# EAGLE library part 5CSE (library ORBiT-IC-SoCFPGA-Intel-CYCLONE_V)
Book1 edit this description Auto generated by make-symbol-device-package-bsdl.ulp Rev. 44 Source: Book1.txt Connect-List generated from BOOK1.DEV Variant '' with connect-device-split-symbol.ulp
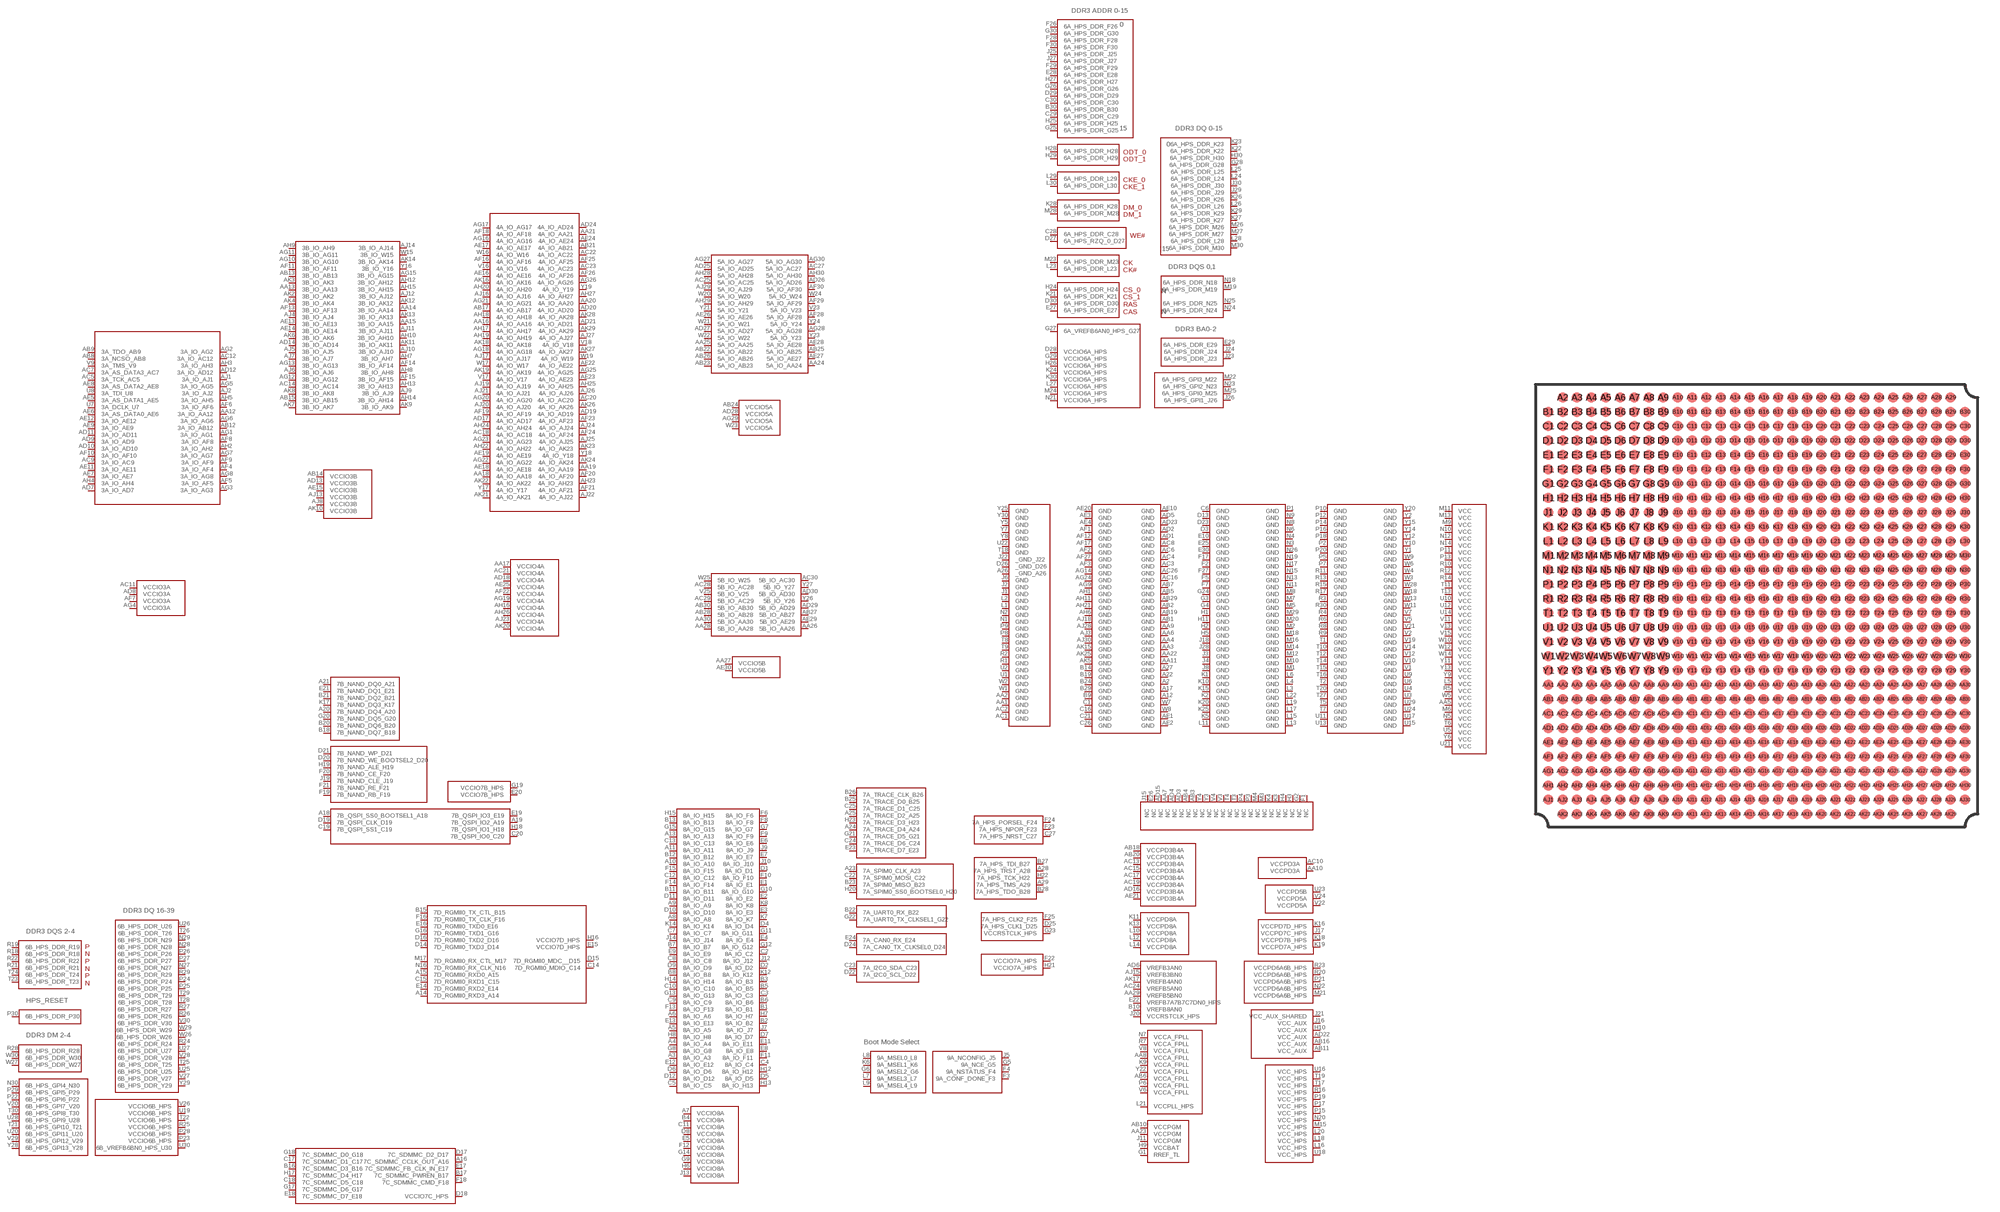
[diagram p0: symbol with the pads of FBGA896; footprint FBGA896]

Designator prefix -; gates G$1=5CSE_BANK3A G$2=5CSE_BANK3B G$3=5CSE_BANK4A G$4=5CSE_BANK5A G$5=5CSE_BANK5B G$6=5CSE_BANK6A G$7=5CSE_BANK6B G$8=5CSE_BANK7A G$9=5CSE_BANK7B G$10=5CSE_BANK7C G$11=5CSE_BANK7D G$12=5CSE_BANK8A G$13=5CSE_BANK9A G$14=5CSE_CORE_POWER G$15=5CSE_SPECIAL_POWER

## 5CSE  [FBGA896]
A2  G$14:GND  pwr
A3  G$12:8A_IO_A3
A4  G$12:8A_IO_A4
A5  G$12:8A_IO_A5
A6  G$12:8A_IO_A6
A7  G$12:VCCIO8A  pwr
A8  G$12:8A_IO_A8
A9  G$12:8A_IO_A9
A10  G$12:8A_IO_A10
A11  G$12:8A_IO_A11
A12  G$14:GND  pwr
A13  G$12:8A_IO_A13
A14  G$11:7D_RGMII0_RXD3_A14
A15  G$11:7D_RGMII0_RXD0_A15
A16  G$10:7C_SDMMC_CCLK_OUT_A16
A17  G$14:GND  pwr
A18  G$9:7B_QSPI_SS0_BOOTSEL1_A18
A19  G$9:7B_QSPI_IO2_A19
A20  G$9:7B_NAND_DQ4_A20
A21  G$9:7B_NAND_DQ0_A21
A22  G$14:GND  pwr
A23  G$8:7A_SPIM0_CLK_A23
A24  G$8:7A_TRACE_D4_A24
A25  G$8:7A_TRACE_D2_A25
A26  G$14:_GND_A26  pwr
A27  G$14:GND  pwr
A28  G$8:7A_HPS_TRST_A28
A29  G$8:7A_HPS_TMS_A29
AA1  G$14:GND  pwr
AA2  G$14:GND  pwr
AA3  G$14:GND  pwr
AA4  G$14:GND  pwr
AA5  G$14:VCC  pwr
AA6  G$14:GND  pwr
AA7  G$15:NC  nc
AA8  G$15:VCCA_FPLL  pwr
AA9  G$14:GND  pwr
AA10  G$15:VCCPD3A  pwr
AA11  G$14:GND  pwr
AA12  G$1:3A_IO_AA12
AA13  G$2:3B_IO_AA13
AA14  G$2:3B_IO_AA14
AA15  G$2:3B_IO_AA15
AA16  G$3:4A_IO_AA16
AA17  G$3:VCCIO4A  pwr
AA18  G$3:4A_IO_AA18
AA19  G$3:4A_IO_AA19
AA20  G$3:4A_IO_AA20
AA21  G$3:4A_IO_AA21
AA22  G$14:GND  pwr
AA23  G$15:VCCPGM  pwr
AA24  G$4:5A_IO_AA24
AA25  G$4:5A_IO_AA25
AA26  G$5:5B_IO_AA26
AA27  G$5:VCCIO5B  pwr
AA28  G$5:5B_IO_AA28
AA29  G$15:VREFB5BN0  pwr
AA30  G$5:5B_IO_AA30
AB1  G$14:GND  pwr
AB2  G$14:GND  pwr
AB3  G$15:NC  nc
AB4  G$15:NC  nc
AB5  G$14:GND  pwr
AB6  G$15:VCCA_FPLL  pwr
AB7  G$14:GND  pwr
AB8  G$1:3A_NCSO_AB8
AB9  G$1:3A_TDO_AB9
AB10  G$15:VCCPGM  pwr
AB11  G$15:VCC_AUX  pwr
AB12  G$1:3A_IO_AB12
AB13  G$2:3B_IO_AB13
AB14  G$2:VCCIO3B  pwr
AB15  G$2:3B_IO_AB15
AB16  G$15:VCC_AUX  pwr
AB17  G$3:4A_IO_AB17
AB18  G$15:VCCPD3B4A  pwr
AB19  G$14:GND  pwr
AB20  G$15:VCCPD3B4A  pwr
AB21  G$3:4A_IO_AB21
AB22  G$4:5A_IO_AB22
AB23  G$4:5A_IO_AB23
AB24  G$4:VCCIO5A  pwr
AB25  G$4:5A_IO_AB25
AB26  G$4:5A_IO_AB26
AB27  G$5:5B_IO_AB27
AB28  G$5:5B_IO_AB28
AB29  G$14:GND  pwr
AB30  G$5:5B_IO_AB30
AC1  G$14:GND  pwr
AC2  G$14:GND  pwr
AC3  G$14:GND  pwr
AC4  G$14:GND  pwr
AC5  G$1:3A_TCK_AC5
AC6  G$14:GND  pwr
AC7  G$1:3A_AS_DATA3_AC7
AC8  G$14:GND  pwr
AC9  G$1:3A_IO_AC9
AC10  G$15:VCCPD3A  pwr
AC11  G$1:VCCIO3A  pwr
AC12  G$1:3A_IO_AC12
AC13  G$15:VCCPD3B4A  pwr
AC14  G$2:3B_IO_AC14
AC15  G$15:VCCPD3B4A  pwr
AC16  G$14:GND  pwr
AC17  G$15:VCCPD3B4A  pwr
AC18  G$3:4A_IO_AC18
AC19  G$15:VCCPD3B4A  pwr
AC20  G$3:4A_IO_AC20
AC21  G$3:VCCIO4A  pwr
AC22  G$3:4A_IO_AC22
AC23  G$3:4A_IO_AC23
AC24  G$15:VREFB5AN0  pwr
AC25  G$4:5A_IO_AC25
AC26  G$14:GND  pwr
AC27  G$4:5A_IO_AC27
AC28  G$5:5B_IO_AC28
AC29  G$5:5B_IO_AC29
AC30  G$5:5B_IO_AC30
AD1  G$14:GND  pwr
AD2  G$14:GND  pwr
AD3  G$15:NC  nc
AD4  G$15:NC  nc
AD5  G$14:GND  pwr
AD6  G$15:VREFB3AN0  pwr
AD7  G$1:3A_IO_AD7
AD8  G$1:VCCIO3A  pwr
AD9  G$1:3A_IO_AD9
AD10  G$1:3A_IO_AD10
AD11  G$1:3A_IO_AD11
AD12  G$1:3A_IO_AD12
AD13  G$2:VCCIO3B  pwr
AD14  G$2:3B_IO_AD14
AD15  G$15:NC  nc
AD16  G$15:VCCPD3B4A  pwr
AD17  G$3:4A_IO_AD17
AD18  G$3:VCCIO4A  pwr
AD19  G$3:4A_IO_AD19
AD20  G$3:4A_IO_AD20
AD21  G$3:4A_IO_AD21
AD22  G$15:VCC_AUX  pwr
AD23  G$14:GND  pwr
AD24  G$3:4A_IO_AD24
AD25  G$4:5A_IO_AD25
AD26  G$4:5A_IO_AD26
AD27  G$4:5A_IO_AD27
AD28  G$4:VCCIO5A  pwr
AD29  G$5:5B_IO_AD29
AD30  G$5:5B_IO_AD30
AE1  G$14:GND  pwr
AE2  G$14:GND  pwr
AE3  G$14:GND  pwr
AE4  G$14:GND  pwr
AE5  G$1:3A_AS_DATA1_AE5
AE6  G$1:3A_AS_DATA0_AE6
AE7  G$1:3A_IO_AE7
AE8  G$1:3A_AS_DATA2_AE8
AE9  G$1:3A_IO_AE9
AE10  G$14:GND  pwr
AE11  G$1:3A_IO_AE11
AE12  G$1:3A_IO_AE12
AE13  G$2:3B_IO_AE13
AE14  G$2:3B_IO_AE14
AE15  G$2:VCCIO3B  pwr
AE16  G$3:4A_IO_AE16
AE17  G$3:4A_IO_AE17
AE18  G$3:4A_IO_AE18
AE19  G$3:4A_IO_AE19
AE20  G$14:GND  pwr
AE21  G$15:VCCPD3B4A  pwr
AE22  G$3:4A_IO_AE22
AE23  G$3:4A_IO_AE23
AE24  G$3:4A_IO_AE24
AE25  G$3:VCCIO4A  pwr
AE26  G$4:5A_IO_AE26
AE27  G$4:5A_IO_AE27
AE28  G$4:5A_IO_AE28
AE29  G$5:5B_IO_AE29
AE30  G$5:VCCIO5B  pwr
AF1  G$14:GND  pwr
AF2  G$14:GND  pwr
AF3  G$14:GND  pwr
AF4  G$1:3A_IO_AF4
AF5  G$1:3A_IO_AF5
AF6  G$1:3A_IO_AF6
AF7  G$1:VCCIO3A  pwr
AF8  G$1:3A_IO_AF8
AF9  G$1:3A_IO_AF9
AF10  G$1:3A_IO_AF10
AF11  G$2:3B_IO_AF11
AF12  G$14:GND  pwr
AF13  G$2:3B_IO_AF13
AF14  G$2:3B_IO_AF14
AF15  G$2:3B_IO_AF15
AF16  G$3:4A_IO_AF16
AF17  G$14:GND  pwr
AF18  G$3:4A_IO_AF18
AF19  G$3:4A_IO_AF19
AF20  G$3:4A_IO_AF20
AF21  G$3:4A_IO_AF21
AF22  G$3:VCCIO4A  pwr
AF23  G$3:4A_IO_AF23
AF24  G$3:4A_IO_AF24
AF25  G$3:4A_IO_AF25
AF26  G$3:4A_IO_AF26
AF27  G$14:GND  pwr
AF28  G$4:5A_IO_AF28
AF29  G$4:5A_IO_AF29
AF30  G$4:5A_IO_AF30
AG1  G$1:3A_IO_AG1
AG2  G$1:3A_IO_AG2
AG3  G$1:3A_IO_AG3
AG4  G$1:VCCIO3A  pwr
AG5  G$1:3A_IO_AG5
AG6  G$1:3A_IO_AG6
AG7  G$1:3A_IO_AG7
AG8  G$1:3A_IO_AG8
AG9  G$14:GND  pwr
AG10  G$2:3B_IO_AG10
AG11  G$2:3B_IO_AG11
AG12  G$2:3B_IO_AG12
AG13  G$2:3B_IO_AG13
AG14  G$14:GND  pwr
AG15  G$2:3B_IO_AG15
AG16  G$3:4A_IO_AG16
AG17  G$3:4A_IO_AG17
AG18  G$3:4A_IO_AG18
AG19  G$3:VCCIO4A  pwr
AG20  G$3:4A_IO_AG20
AG21  G$3:4A_IO_AG21
AG22  G$3:4A_IO_AG22
AG23  G$3:4A_IO_AG23
AG24  G$14:GND  pwr
AG25  G$3:4A_IO_AG25
AG26  G$3:4A_IO_AG26
AG27  G$4:5A_IO_AG27
AG28  G$4:5A_IO_AG28
AG29  G$4:VCCIO5A  pwr
AG30  G$4:5A_IO_AG30
AH1  G$14:GND  pwr
AH2  G$1:3A_IO_AH2
AH3  G$1:3A_IO_AH3
AH4  G$1:3A_IO_AH4
AH5  G$1:3A_IO_AH5
AH6  G$14:GND  pwr
AH7  G$2:3B_IO_AH7
AH8  G$2:3B_IO_AH8
AH9  G$2:3B_IO_AH9
AH10  G$2:3B_IO_AH10
AH11  G$14:GND  pwr
AH12  G$2:3B_IO_AH12
AH13  G$2:3B_IO_AH13
AH14  G$2:3B_IO_AH14
AH15  G$2:3B_IO_AH15
AH16  G$3:VCCIO4A  pwr
AH17  G$3:4A_IO_AH17
AH18  G$3:4A_IO_AH18
AH19  G$3:4A_IO_AH19
AH20  G$3:4A_IO_AH20
AH21  G$14:GND  pwr
AH22  G$3:4A_IO_AH22
AH23  G$3:4A_IO_AH23
AH24  G$3:4A_IO_AH24
AH25  G$3:4A_IO_AH25
AH26  G$3:VCCIO4A  pwr
AH27  G$3:4A_IO_AH27
AH28  G$4:5A_IO_AH28
AH29  G$4:5A_IO_AH29
AH30  G$4:5A_IO_AH30
AJ1  G$1:3A_IO_AJ1
AJ2  G$1:3A_IO_AJ2
AJ3  G$14:GND  pwr
AJ4  G$2:3B_IO_AJ4
AJ5  G$2:3B_IO_AJ5
AJ6  G$2:3B_IO_AJ6
AJ7  G$2:3B_IO_AJ7
AJ8  G$2:VCCIO3B  pwr
AJ9  G$2:3B_IO_AJ9
AJ10  G$2:3B_IO_AJ10
AJ11  G$2:3B_IO_AJ11
AJ12  G$2:3B_IO_AJ12
AJ13  G$2:VCCIO3B  pwr
AJ14  G$2:3B_IO_AJ14
AJ15  G$15:VREFB3BN0  pwr
AJ16  G$3:4A_IO_AJ16
AJ17  G$3:4A_IO_AJ17
AJ18  G$14:GND  pwr
AJ19  G$3:4A_IO_AJ19
AJ20  G$3:4A_IO_AJ20
AJ21  G$3:4A_IO_AJ21
AJ22  G$3:4A_IO_AJ22
AJ23  G$3:VCCIO4A  pwr
AJ24  G$3:4A_IO_AJ24
AJ25  G$3:4A_IO_AJ25
AJ26  G$3:4A_IO_AJ26
AJ27  G$3:4A_IO_AJ27
AJ28  G$14:GND  pwr
AJ29  G$4:5A_IO_AJ29
AJ30  G$14:GND  pwr
AK2  G$2:3B_IO_AK2
AK3  G$2:3B_IO_AK3
AK4  G$2:3B_IO_AK4
AK5  G$14:GND  pwr
AK6  G$2:3B_IO_AK6
AK7  G$2:3B_IO_AK7
AK8  G$2:3B_IO_AK8
AK9  G$2:3B_IO_AK9
AK10  G$2:VCCIO3B  pwr
AK11  G$2:3B_IO_AK11
AK12  G$2:3B_IO_AK12
AK13  G$2:3B_IO_AK13
AK14  G$2:3B_IO_AK14
AK15  G$14:GND  pwr
AK16  G$3:4A_IO_AK16
AK17  G$15:VREFB4AN0  pwr
AK18  G$3:4A_IO_AK18
AK19  G$3:4A_IO_AK19
AK20  G$3:VCCIO4A  pwr
AK21  G$3:4A_IO_AK21
AK22  G$3:4A_IO_AK22
AK23  G$3:4A_IO_AK23
AK24  G$3:4A_IO_AK24
AK25  G$14:GND  pwr
AK26  G$3:4A_IO_AK26
AK27  G$3:4A_IO_AK27
AK28  G$3:4A_IO_AK28
AK29  G$3:4A_IO_AK29
B1  G$12:8A_IO_B1
B2  G$12:8A_IO_B2
B3  G$12:8A_IO_B3
B4  G$12:VCCIO8A  pwr
B5  G$12:8A_IO_B5
B6  G$12:8A_IO_B6
B7  G$12:8A_IO_B7
B8  G$12:8A_IO_B8
B9  G$14:GND  pwr
B10  G$15:VREFB8AN0  pwr
B11  G$12:8A_IO_B11
B12  G$12:8A_IO_B12
B13  G$12:8A_IO_B13
B14  G$14:GND  pwr
B15  G$11:7D_RGMII0_TX_CTL_B15
B16  G$10:7C_SDMMC_D3_B16
B17  G$10:7C_SDMMC_PWREN_B17
B18  G$9:7B_NAND_DQ7_B18
B19  G$14:GND  pwr
B20  G$9:7B_NAND_DQ6_B20
B21  G$9:7B_NAND_DQ2_B21
B22  G$8:7A_UART0_RX_B22
B23  G$8:7A_SPIM0_MISO_B23
B24  G$14:GND  pwr
B25  G$8:7A_TRACE_D0_B25
B26  G$8:7A_TRACE_CLK_B26
B27  G$8:7A_HPS_TDI_B27
B28  G$8:7A_HPS_TDO_B28
B29  G$14:GND  pwr
B30  G$6:6A_HPS_DDR_B30
C1  G$14:GND  pwr
C2  G$12:8A_IO_C2
C3  G$12:8A_IO_C3
C4  G$12:8A_IO_C4
C5  G$12:8A_IO_C5
C6  G$14:GND  pwr
C7  G$12:8A_IO_C7
C8  G$12:8A_IO_C8
C9  G$12:8A_IO_C9
C10  G$12:8A_IO_C10
C11  G$12:VCCIO8A  pwr
C12  G$12:8A_IO_C12
C13  G$12:8A_IO_C13
C14  G$11:7D_RGMII0_MDIO_C14
C15  G$11:7D_RGMII0_RXD1_C15
C16  G$14:GND  pwr
C17  G$10:7C_SDMMC_D1_C17
C18  G$10:7C_SDMMC_D5_C18
C19  G$9:7B_QSPI_SS1_C19
C20  G$9:7B_QSPI_IO0_C20
C21  G$14:GND  pwr
C22  G$8:7A_SPIM0_MOSI_C22
C23  G$8:7A_I2C0_SDA_C23
C24  G$8:7A_TRACE_D6_C24
C25  G$8:7A_TRACE_D1_C25
C26  G$14:GND  pwr
C27  G$8:7A_HPS_NRST_C27
C28  G$6:6A_HPS_DDR_C28
C29  G$6:6A_HPS_DDR_C29
C30  G$6:6A_HPS_DDR_C30
D1  G$12:8A_IO_D1
D2  G$12:8A_IO_D2
D3  G$14:GND  pwr
D4  G$12:8A_IO_D4
D5  G$12:8A_IO_D5
D6  G$12:8A_IO_D6
D7  G$12:8A_IO_D7
D8  G$12:VCCIO8A  pwr
D9  G$12:8A_IO_D9
D10  G$12:8A_IO_D10
D11  G$12:8A_IO_D11
D12  G$12:8A_IO_D12
D13  G$14:GND  pwr
D14  G$11:7D_RGMII0_TXD3_D14
D15  G$11:7D_RGMII0_MDC__D15
D16  G$11:7D_RGMII0_TXD2_D16
D17  G$10:7C_SDMMC_D2_D17
D18  G$10:VCCIO7C_HPS  pwr
D19  G$9:7B_QSPI_CLK_D19
D20  G$9:7B_NAND_WE_BOOTSEL2_D20
D21  G$9:7B_NAND_WP_D21
D22  G$8:7A_I2C0_SCL_D22
D23  G$14:GND  pwr
D24  G$8:7A_CAN0_TX_CLKSEL0_D24
D25  G$8:7A_HPS_CLK1_D25
D26  G$14:_GND_D26  pwr
D27  G$6:6A_HPS_RZQ_0_D27
D28  G$6:VCCIO6A_HPS  pwr
D29  G$6:6A_HPS_DDR_D29
D30  G$6:6A_HPS_DDR_D30
E1  G$12:8A_IO_E1
E2  G$12:8A_IO_E2
E3  G$12:8A_IO_E3
E4  G$12:8A_IO_E4
E5  G$12:VCCIO8A  pwr
E6  G$12:8A_IO_E6
E7  G$12:8A_IO_E7
E8  G$12:8A_IO_E8
E9  G$12:8A_IO_E9
E10  G$14:GND  pwr
E11  G$12:8A_IO_E11
E12  G$12:8A_IO_E12
E13  G$12:8A_IO_E13
E14  G$11:7D_RGMII0_RXD2_E14
E15  G$11:VCCIO7D_HPS  pwr
E16  G$11:7D_RGMII0_TXD0_E16
E17  G$10:7C_SDMMC_FB_CLK_IN_E17
E18  G$10:7C_SDMMC_D7_E18
E19  G$9:7B_QSPI_IO3_E19
E20  G$9:VCCIO7B_HPS  pwr
E21  G$9:7B_NAND_DQ1_E21
E22  G$15:VREFB7A7B7C7DN0_HPS  pwr
E23  G$8:7A_TRACE_D7_E23
E24  G$8:7A_CAN0_RX_E24
E25  G$14:GND  pwr
E26  G$15:NC  nc
E27  G$6:6A_HPS_DDR_E27
E28  G$6:6A_HPS_DDR_E28
E29  G$6:6A_HPS_DDR_E29
E30  G$14:GND  pwr
F1  G$15:NC  nc
F2  G$14:GND  pwr
F3  G$13:9A_CONF_DONE_F3
F4  G$13:9A_NSTATUS_F4
F5  G$14:GND  pwr
F6  G$12:8A_IO_F6
F7  G$14:GND  pwr
F8  G$12:8A_IO_F8
F9  G$12:8A_IO_F9
F10  G$12:8A_IO_F10
F11  G$12:8A_IO_F11
F12  G$12:VCCIO8A  pwr
F13  G$12:8A_IO_F13
F14  G$12:8A_IO_F14
F15  G$12:8A_IO_F15
F16  G$11:7D_RGMII0_TX_CLK_F16
F17  G$14:GND  pwr
F18  G$10:7C_SDMMC_CMD_F18
F19  G$9:7B_NAND_RB_F19
F20  G$9:7B_NAND_CE_F20
F21  G$9:7B_NAND_RE_F21
F22  G$8:VCCIO7A_HPS  pwr
F23  G$8:7A_HPS_NPOR_F23
F24  G$8:7A_HPS_PORSEL_F24
F25  G$8:7A_HPS_CLK2_F25
F26  G$6:6A_HPS_DDR_F26
F27  G$14:GND  pwr
F28  G$6:6A_HPS_DDR_F28
F29  G$6:6A_HPS_DDR_F29
F30  G$6:6A_HPS_DDR_F30
G1  G$15:RREF_TL
G2  G$15:NC  nc
G3  G$14:GND  pwr
G4  G$14:GND  pwr
G5  G$13:9A_NCE_G5
G6  G$13:9A_MSEL2_G6
G7  G$12:8A_IO_G7
G8  G$12:8A_IO_G8
G9  G$12:VCCIO8A  pwr
G10  G$12:8A_IO_G10
G11  G$12:8A_IO_G11
G12  G$12:8A_IO_G12
G13  G$12:8A_IO_G13
G14  G$12:VCCIO8A  pwr
G15  G$12:8A_IO_G15
G16  G$11:7D_RGMII0_TXD1_G16
G17  G$10:7C_SDMMC_D6_G17
G18  G$10:7C_SDMMC_D0_G18
G19  G$9:VCCIO7B_HPS  pwr
G20  G$9:7B_NAND_DQ5_G20
G21  G$8:7A_TRACE_D5_G21
G22  G$8:7A_UART0_TX_CLKSEL1_G22
G23  G$8:VCCRSTCLK_HPS
G24  G$14:GND  pwr
G25  G$6:6A_HPS_DDR_G25
G26  G$6:6A_HPS_DDR_G26
G27  G$6:6A_VREFB6AN0_HPS_G27
G28  G$6:6A_HPS_DDR_G28
G29  G$6:VCCIO6A_HPS  pwr
G30  G$6:6A_HPS_DDR_G30
H1  G$14:GND  pwr
H2  G$14:GND  pwr
H3  G$15:NC  nc
H4  G$15:NC  nc
H5  G$14:GND  pwr
H6  G$12:VCCIO8A  pwr
H7  G$12:8A_IO_H7
H8  G$12:8A_IO_H8
H9  G$15:VCCBAT  pwr
H10  G$15:VCC_AUX  pwr
H11  G$14:GND  pwr
H12  G$12:8A_IO_H12
H13  G$12:8A_IO_H13
H14  G$12:8A_IO_H14
H15  G$12:8A_IO_H15
H16  G$11:VCCIO7D_HPS  pwr
H17  G$10:7C_SDMMC_D4_H17
H18  G$9:7B_QSPI_IO1_H18
H19  G$9:7B_NAND_ALE_H19
H20  G$8:7A_SPIM0_SS0_BOOTSEL0_H20
H21  G$8:VCCIO7A_HPS  pwr
H22  G$8:7A_HPS_TCK_H22
H23  G$8:7A_TRACE_D3_H23
H24  G$6:6A_HPS_DDR_H24
H25  G$6:6A_HPS_DDR_H25
H26  G$6:VCCIO6A_HPS  pwr
H27  G$6:6A_HPS_DDR_H27
H28  G$6:6A_HPS_DDR_H28
H29  G$6:6A_HPS_DDR_H29
H30  G$6:6A_HPS_DDR_H30
J1  G$14:GND  pwr
J2  G$14:GND  pwr
J3  G$14:GND  pwr
J4  G$14:GND  pwr
J5  G$13:9A_NCONFIG_J5
J6  G$14:GND  pwr
J7  G$12:8A_IO_J7
J8  G$14:GND  pwr
J9  G$12:8A_IO_J9
J10  G$12:8A_IO_J10
J11  G$15:VCCPGM  pwr
J12  G$12:8A_IO_J12
J13  G$12:VCCIO8A  pwr
J14  G$12:8A_IO_J14
J15  G$15:NC  nc
J16  G$15:VCC_AUX  pwr
J17  G$15:VCCPD7C_HPS  pwr
J18  G$14:GND  pwr
J19  G$9:7B_NAND_CLE_J19
J20  G$15:VCCRSTCLK_HPS  pwr
J21  G$15:VCC_AUX_SHARED  pwr
J22  G$14:_GND_J22  pwr
J23  G$6:6A_HPS_DDR_J23
J24  G$6:6A_HPS_DDR_J24
J25  G$6:6A_HPS_DDR_J25
J26  G$6:6A_HPS_GPI1_J26
J27  G$6:6A_HPS_DDR_J27
J28  G$14:GND  pwr
J29  G$6:6A_HPS_DDR_J29
J30  G$6:6A_HPS_DDR_J30
K1  G$14:GND  pwr
K2  G$14:GND  pwr
K3  G$15:NC  nc
K4  G$15:NC  nc
K5  G$14:GND  pwr
K6  G$13:9A_MSEL1_K6
K7  G$12:8A_IO_K7
K8  G$12:8A_IO_K8
K9  G$15:VCCA_FPLL  pwr
K10  G$14:GND  pwr
K11  G$15:VCCPD8A  pwr
K12  G$12:8A_IO_K12
K13  G$15:VCCPD8A  pwr
K14  G$12:8A_IO_K14
K15  G$14:GND  pwr
K16  G$15:VCCPD7D_HPS  pwr
K17  G$9:7B_NAND_DQ3_K17
K18  G$15:VCCPD7B_HPS  pwr
K19  G$15:VCCPD7A_HPS  pwr
K20  G$14:GND  pwr
K21  G$6:6A_HPS_DDR_K21
K22  G$6:6A_HPS_DDR_K22
K23  G$6:6A_HPS_DDR_K23
K24  G$6:VCCIO6A_HPS  pwr
K25  G$14:GND  pwr
K26  G$6:6A_HPS_DDR_K26
K27  G$6:6A_HPS_DDR_K27
K28  G$6:6A_HPS_DDR_K28
K29  G$6:6A_HPS_DDR_K29
K30  G$6:VCCIO6A_HPS  pwr
L1  G$14:GND  pwr
L2  G$14:GND  pwr
L3  G$14:GND  pwr
L4  G$14:GND  pwr
L5  G$14:VCC  pwr
L6  G$14:GND  pwr
L7  G$13:9A_MSEL3_L7
L8  G$13:9A_MSEL0_L8
L9  G$13:9A_MSEL4_L9
L10  G$15:VCCPD8A  pwr
L11  G$14:GND  pwr
L12  G$15:VCCPD8A  pwr
L13  G$14:GND  pwr
L14  G$15:VCCPD8A  pwr
L15  G$14:GND  pwr
L16  G$15:VCC_HPS  pwr
L17  G$14:GND  pwr
L18  G$15:VCC_HPS  pwr
L19  G$14:GND  pwr
L20  G$15:VCC_HPS  pwr
L21  G$15:VCCPLL_HPS  pwr
L22  G$14:GND  pwr
L23  G$6:6A_HPS_DDR_L23
L24  G$6:6A_HPS_DDR_L24
L25  G$6:6A_HPS_DDR_L25
L26  G$6:6A_HPS_DDR_L26
L27  G$6:VCCIO6A_HPS  pwr
L28  G$6:6A_HPS_DDR_L28
L29  G$6:6A_HPS_DDR_L29
L30  G$6:6A_HPS_DDR_L30
M1  G$14:GND  pwr
M2  G$14:GND  pwr
M3  G$15:NC  nc
M4  G$15:NC  nc
M5  G$14:GND  pwr
M6  G$14:VCC  pwr
M7  G$14:GND  pwr
M8  G$14:GND  pwr
M9  G$14:VCC  pwr
M10  G$14:GND  pwr
M11  G$14:VCC  pwr
M12  G$14:GND  pwr
M13  G$14:VCC  pwr
M14  G$14:GND  pwr
M15  G$15:VCC_HPS  pwr
M16  G$14:GND  pwr
M17  G$11:7D_RGMII0_RX_CTL_M17
M18  G$14:GND  pwr
M19  G$6:6A_HPS_DDR_M19
M20  G$14:GND  pwr
M21  G$15:VCCPD6A6B_HPS  pwr
M22  G$6:6A_HPS_GPI3_M22
M23  G$6:6A_HPS_DDR_M23
M24  G$6:VCCIO6A_HPS  pwr
M25  G$6:6A_HPS_GPI0_M25
M26  G$6:6A_HPS_DDR_M26
M27  G$6:6A_HPS_DDR_M27
M28  G$6:6A_HPS_DDR_M28
M29  G$14:GND  pwr
M30  G$6:6A_HPS_DDR_M30
N1  G$14:GND  pwr
N2  G$14:GND  pwr
N3  G$14:GND  pwr
N4  G$14:GND  pwr
N5  G$14:VCC  pwr
N6  G$14:GND  pwr
N7  G$15:VCCA_FPLL  pwr
N8  G$14:GND  pwr
N9  G$14:GND  pwr
N10  G$14:VCC  pwr
N11  G$14:GND  pwr
N12  G$14:VCC  pwr
N13  G$14:GND  pwr
N14  G$14:VCC  pwr
N15  G$14:GND  pwr
N16  G$11:7D_RGMII0_RX_CLK_N16
N17  G$14:GND  pwr
N18  G$6:6A_HPS_DDR_N18
N19  G$14:GND  pwr
N20  G$15:VCC_HPS  pwr
N21  G$6:VCCIO6A_HPS  pwr
N22  G$15:VCCPD6A6B_HPS  pwr
N23  G$6:6A_HPS_GPI2_N23
N24  G$6:6A_HPS_DDR_N24
N25  G$6:6A_HPS_DDR_N25
N26  G$14:GND  pwr
N27  G$7:6B_HPS_DDR_N27
N28  G$7:6B_HPS_DDR_N28
N29  G$7:6B_HPS_DDR_N29
N30  G$7:6B_HPS_GPI4_N30
P1  G$14:GND  pwr
P2  G$14:GND  pwr
P3  G$15:NC  nc
P4  G$15:NC  nc
P5  G$14:GND  pwr
P6  G$15:VCCA_FPLL  pwr
P7  G$14:GND  pwr
P8  G$14:GND  pwr
P9  G$14:GND  pwr
P10  G$14:GND  pwr
P11  G$14:VCC  pwr
P12  G$14:GND  pwr
P13  G$14:VCC  pwr
P14  G$14:GND  pwr
P15  G$15:VCC_HPS  pwr
P16  G$14:GND  pwr
P17  G$15:VCC_HPS  pwr
P18  G$14:GND  pwr
P19  G$15:VCC_HPS  pwr
P20  G$14:GND  pwr
P21  G$15:VCCPD6A6B_HPS  pwr
P22  G$7:6B_HPS_GPI6_P22
P23  G$7:VCCIO6B_HPS  pwr
P24  G$7:6B_HPS_DDR_P24
P25  G$7:6B_HPS_DDR_P25
P26  G$7:6B_HPS_DDR_P26
P27  G$7:6B_HPS_DDR_P27
P28  G$7:VCCIO6B_HPS  pwr
P29  G$7:6B_HPS_GPI5_P29
P30  G$7:6B_HPS_DDR_P30
R1  G$14:GND  pwr
R2  G$14:GND  pwr
R3  G$14:GND  pwr
R4  G$14:GND  pwr
R5  G$14:VCC  pwr
R6  G$14:GND  pwr
R7  G$15:VCCA_FPLL  pwr
R8  G$14:GND  pwr
R9  G$14:GND  pwr
R10  G$14:VCC  pwr
R11  G$14:GND  pwr
R12  G$14:VCC  pwr
R13  G$14:GND  pwr
R14  G$14:VCC  pwr
R15  G$14:GND  pwr
R16  G$15:VCC_HPS  pwr
R17  G$14:GND  pwr
R18  G$7:6B_HPS_DDR_R18
R19  G$7:6B_HPS_DDR_R19
R20  G$15:VCCPD6A6B_HPS  pwr
R21  G$7:6B_HPS_DDR_R21
R22  G$7:6B_HPS_DDR_R22
R23  G$15:VCCPD6A6B_HPS  pwr
R24  G$7:6B_HPS_DDR_R24
R25  G$7:VCCIO6B_HPS  pwr
R26  G$7:6B_HPS_DDR_R26
R27  G$7:6B_HPS_DDR_R27
R28  G$7:6B_HPS_DDR_R28
R29  G$7:6B_HPS_DDR_R29
R30  G$14:GND  pwr
T1  G$14:GND  pwr
T2  G$14:GND  pwr
T3  G$15:NC  nc
T4  G$15:NC  nc
T5  G$14:GND  pwr
T6  G$14:VCC  pwr
T7  G$14:GND  pwr
T8  G$14:GND  pwr
T9  G$14:GND  pwr
T10  G$14:GND  pwr
T11  G$14:VCC  pwr
T12  G$14:GND  pwr
T13  G$14:VCC  pwr
T14  G$14:GND  pwr
T15  G$14:GND  pwr
T16  G$14:GND  pwr
T17  G$15:VCC_HPS  pwr
T18  G$14:GND  pwr
T19  G$15:VCC_HPS  pwr
T20  G$14:GND  pwr
T21  G$7:6B_HPS_GPI10_T21
T22  G$7:VCCIO6B_HPS  pwr
T23  G$7:6B_HPS_DDR_T23
T24  G$7:6B_HPS_DDR_T24
T25  G$7:6B_HPS_DDR_T25
T26  G$7:6B_HPS_DDR_T26
T27  G$14:GND  pwr
T28  G$7:6B_HPS_DDR_T28
T29  G$7:6B_HPS_DDR_T29
T30  G$7:6B_HPS_GPI8_T30
U1  G$14:GND  pwr
U2  G$14:GND  pwr
U3  G$14:GND  pwr
U4  G$14:GND  pwr
U5  G$14:VCC  pwr
U6  G$14:GND  pwr
U7  G$1:3A_DCLK_U7
U8  G$1:3A_TDI_U8
U9  G$14:GND  pwr
U10  G$14:VCC  pwr
U11  G$14:GND  pwr
U12  G$14:VCC  pwr
U13  G$14:GND  pwr
U14  G$14:VCC  pwr
U15  G$14:GND  pwr
U16  G$15:VCC_HPS  pwr
U17  G$14:GND  pwr
U18  G$15:VCC_HPS  pwr
U19  G$7:VCCIO6B_HPS  pwr
U20  G$7:6B_HPS_GPI11_U20
U21  G$14:VCC  pwr
U22  G$14:GND  pwr
U23  G$15:VCCPD5B  pwr
U24  G$14:GND  pwr
U25  G$7:6B_HPS_DDR_U25
U26  G$7:6B_HPS_DDR_U26
U27  G$7:6B_HPS_DDR_U27
U28  G$7:6B_HPS_GPI9_U28
U29  G$14:GND  pwr
U30  G$7:6B_VREFB6BN0_HPS_U30
V1  G$14:GND  pwr
V2  G$14:GND  pwr
V3  G$15:NC  nc
V4  G$15:NC  nc
V5  G$14:GND  pwr
V6  G$15:VCCA_FPLL  pwr
V7  G$14:GND  pwr
V8  G$15:VCCA_FPLL  pwr
V9  G$1:3A_TMS_V9
V10  G$14:GND  pwr
V11  G$14:VCC  pwr
V12  G$14:GND  pwr
V13  G$14:VCC  pwr
V14  G$14:GND  pwr
V15  G$14:VCC  pwr
V16  G$3:4A_IO_V16
V17  G$3:4A_IO_V17
V18  G$3:4A_IO_V18
V19  G$14:GND  pwr
V20  G$7:6B_HPS_GPI7_V20
V21  G$14:GND  pwr
V22  G$15:VCCPD5A  pwr
V23  G$4:5A_IO_V23
V24  G$15:VCCPD5A  pwr
V25  G$5:5B_IO_V25
V26  G$7:VCCIO6B_HPS  pwr
V27  G$7:6B_HPS_DDR_V27
V28  G$7:6B_HPS_DDR_V28
V29  G$7:6B_HPS_GPI12_V29
V30  G$7:6B_HPS_DDR_V30
W1  G$14:GND  pwr
W2  G$14:GND  pwr
W3  G$14:GND  pwr
W4  G$14:GND  pwr
W5  G$14:VCC  pwr
W6  G$14:GND  pwr
W7  G$14:GND  pwr
W8  G$14:GND  pwr
W9  G$14:GND  pwr
W10  G$14:VCC  pwr
W11  G$14:GND  pwr
W12  G$14:VCC  pwr
W13  G$14:GND  pwr
W14  G$14:VCC  pwr
W15  G$2:3B_IO_W15
W16  G$3:4A_IO_W16
W17  G$3:4A_IO_W17
W18  G$14:GND  pwr
W19  G$3:4A_IO_W19
W20  G$4:5A_IO_W20
W21  G$4:5A_IO_W21
W22  G$4:5A_IO_W22
W23  G$4:VCCIO5A  pwr
W24  G$4:5A_IO_W24
W25  G$5:5B_IO_W25
W26  G$7:6B_HPS_DDR_W26
W27  G$7:6B_HPS_DDR_W27
W28  G$14:GND  pwr
W29  G$7:6B_HPS_DDR_W29
W30  G$7:6B_HPS_DDR_W30
Y1  G$14:GND  pwr
Y2  G$14:GND  pwr
Y3  G$15:NC  nc
Y4  G$15:NC  nc
Y5  G$14:GND  pwr
Y6  G$14:VCC  pwr
Y7  G$14:GND  pwr
Y8  G$14:GND  pwr
Y9  G$14:VCC  pwr
Y10  G$14:GND  pwr
Y11  G$14:VCC  pwr
Y12  G$14:GND  pwr
Y13  G$14:VCC  pwr
Y14  G$14:GND  pwr
Y15  G$14:GND  pwr
Y16  G$2:3B_IO_Y16
Y17  G$3:4A_IO_Y17
Y18  G$3:4A_IO_Y18
Y19  G$3:4A_IO_Y19
Y20  G$14:GND  pwr
Y21  G$4:5A_IO_Y21
Y22  G$15:VCCA_FPLL  pwr
Y23  G$4:5A_IO_Y23
Y24  G$4:5A_IO_Y24
Y25  G$14:GND  pwr
Y26  G$5:5B_IO_Y26
Y27  G$5:5B_IO_Y27
Y28  G$7:6B_HPS_GPI13_Y28
Y29  G$7:6B_HPS_DDR_Y29
Y30  G$14:GND  pwr

## Footprint FBGA896 (pad centres in mm)
EP2C70F896 Auto generated by make-symbol-device-package-bsdl.ulp Rev. 19 Source: EP2C70F896.BSD www.altera.com .. cyc2_cii51015.pdf
smd 0.7 x 0.7: A2 -13.5,14.5; A3 -12.5,14.5; A4 -11.5,14.5; A5 -10.5,14.5; A6 -9.5,14.5; A7 -8.5,14.5; A8 -7.5,14.5; A9 -6.5,14.5; A10 -5.5,14.5; A11 -4.5,14.5; A12 -3.5,14.5; A13 -2.5,14.5; A14 -1.5,14.5; A15 -0.5,14.5; A16 0.5,14.5; A17 1.5,14.5; A18 2.5,14.5; A19 3.5,14.5; A20 4.5,14.5; A21 5.5,14.5; A22 6.5,14.5; A23 7.5,14.5; A24 8.5,14.5; A25 9.5,14.5; A26 10.5,14.5; A27 11.5,14.5; A28 12.5,14.5; A29 13.5,14.5; AA1 -14.5,-5.5; AA2 -13.5,-5.5; AA3 -12.5,-5.5; AA4 -11.5,-5.5; AA5 -10.5,-5.5; AA6 -9.5,-5.5; AA7 -8.5,-5.5; AA8 -7.5,-5.5; AA9 -6.5,-5.5; AA10 -5.5,-5.5; AA11 -4.5,-5.5; AA12 -3.5,-5.5; AA13 -2.5,-5.5; AA14 -1.5,-5.5; AA15 -0.5,-5.5; AA16 0.5,-5.5; AA17 1.5,-5.5; AA18 2.5,-5.5; AA19 3.5,-5.5; AA20 4.5,-5.5; AA21 5.5,-5.5; AA22 6.5,-5.5; AA23 7.5,-5.5; AA24 8.5,-5.5; AA25 9.5,-5.5; AA26 10.5,-5.5; AA27 11.5,-5.5; AA28 12.5,-5.5; AA29 13.5,-5.5; AA30 14.5,-5.5; AB1 -14.5,-6.5; AB2 -13.5,-6.5; AB3 -12.5,-6.5; AB4 -11.5,-6.5; AB5 -10.5,-6.5; AB6 -9.5,-6.5; AB7 -8.5,-6.5; AB8 -7.5,-6.5; AB9 -6.5,-6.5; AB10 -5.5,-6.5; AB11 -4.5,-6.5; AB12 -3.5,-6.5; AB13 -2.5,-6.5; AB14 -1.5,-6.5; AB15 -0.5,-6.5; AB16 0.5,-6.5; AB17 1.5,-6.5; AB18 2.5,-6.5; AB19 3.5,-6.5; AB20 4.5,-6.5; AB21 5.5,-6.5; AB22 6.5,-6.5; AB23 7.5,-6.5; AB24 8.5,-6.5; AB25 9.5,-6.5; AB26 10.5,-6.5; AB27 11.5,-6.5; AB28 12.5,-6.5; AB29 13.5,-6.5; AB30 14.5,-6.5; AC1 -14.5,-7.5; AC2 -13.5,-7.5; AC3 -12.5,-7.5; AC4 -11.5,-7.5; AC5 -10.5,-7.5; AC6 -9.5,-7.5; AC7 -8.5,-7.5; AC8 -7.5,-7.5; AC9 -6.5,-7.5; AC10 -5.5,-7.5; AC11 -4.5,-7.5; AC12 -3.5,-7.5; AC13 -2.5,-7.5; AC14 -1.5,-7.5; AC15 -0.5,-7.5; AC16 0.5,-7.5; AC17 1.5,-7.5; AC18 2.5,-7.5; AC19 3.5,-7.5; AC20 4.5,-7.5; AC21 5.5,-7.5; AC22 6.5,-7.5; AC23 7.5,-7.5; AC24 8.5,-7.5; AC25 9.5,-7.5; AC26 10.5,-7.5; AC27 11.5,-7.5; AC28 12.5,-7.5; AC29 13.5,-7.5; AC30 14.5,-7.5; AD1 -14.5,-8.5; AD2 -13.5,-8.5; AD3 -12.5,-8.5; AD4 -11.5,-8.5; AD5 -10.5,-8.5; AD6 -9.5,-8.5; AD7 -8.5,-8.5; AD8 -7.5,-8.5; AD9 -6.5,-8.5; AD10 -5.5,-8.5; AD11 -4.5,-8.5; AD12 -3.5,-8.5; AD13 -2.5,-8.5; AD14 -1.5,-8.5; AD15 -0.5,-8.5; AD16 0.5,-8.5; AD17 1.5,-8.5; AD18 2.5,-8.5; AD19 3.5,-8.5; AD20 4.5,-8.5; AD21 5.5,-8.5; AD22 6.5,-8.5; AD23 7.5,-8.5; AD24 8.5,-8.5; AD25 9.5,-8.5; AD26 10.5,-8.5; AD27 11.5,-8.5; AD28 12.5,-8.5; AD29 13.5,-8.5; AD30 14.5,-8.5; AE1 -14.5,-9.5; AE2 -13.5,-9.5; AE3 -12.5,-9.5; AE4 -11.5,-9.5; AE5 -10.5,-9.5; AE6 -9.5,-9.5; AE7 -8.5,-9.5; AE8 -7.5,-9.5; AE9 -6.5,-9.5; AE10 -5.5,-9.5; AE11 -4.5,-9.5; AE12 -3.5,-9.5; AE13 -2.5,-9.5; AE14 -1.5,-9.5; AE15 -0.5,-9.5; AE16 0.5,-9.5; AE17 1.5,-9.5; AE18 2.5,-9.5; AE19 3.5,-9.5; AE20 4.5,-9.5; AE21 5.5,-9.5; AE22 6.5,-9.5; AE23 7.5,-9.5; AE24 8.5,-9.5; AE25 9.5,-9.5; AE26 10.5,-9.5; AE27 11.5,-9.5; AE28 12.5,-9.5; AE29 13.5,-9.5; AE30 14.5,-9.5; AF1 -14.5,-10.5; AF2 -13.5,-10.5; AF3 -12.5,-10.5; AF4 -11.5,-10.5; AF5 -10.5,-10.5; AF6 -9.5,-10.5; AF7 -8.5,-10.5; AF8 -7.5,-10.5; AF9 -6.5,-10.5; AF10 -5.5,-10.5; AF11 -4.5,-10.5; AF12 -3.5,-10.5; AF13 -2.5,-10.5; AF14 -1.5,-10.5; AF15 -0.5,-10.5; AF16 0.5,-10.5; AF17 1.5,-10.5; AF18 2.5,-10.5; AF19 3.5,-10.5; AF20 4.5,-10.5; AF21 5.5,-10.5; AF22 6.5,-10.5; AF23 7.5,-10.5; AF24 8.5,-10.5; AF25 9.5,-10.5; AF26 10.5,-10.5; AF27 11.5,-10.5; AF28 12.5,-10.5; AF29 13.5,-10.5; AF30 14.5,-10.5; AG1 -14.5,-11.5; AG2 -13.5,-11.5; AG3 -12.5,-11.5; AG4 -11.5,-11.5; AG5 -10.5,-11.5; AG6 -9.5,-11.5; AG7 -8.5,-11.5; AG8 -7.5,-11.5; AG9 -6.5,-11.5; AG10 -5.5,-11.5; AG11 -4.5,-11.5; AG12 -3.5,-11.5; AG13 -2.5,-11.5; AG14 -1.5,-11.5; AG15 -0.5,-11.5; AG16 0.5,-11.5; AG17 1.5,-11.5; AG18 2.5,-11.5; AG19 3.5,-11.5; AG20 4.5,-11.5; AG21 5.5,-11.5; AG22 6.5,-11.5; AG23 7.5,-11.5; AG24 8.5,-11.5; AG25 9.5,-11.5; AG26 10.5,-11.5; AG27 11.5,-11.5; AG28 12.5,-11.5; AG29 13.5,-11.5; AG30 14.5,-11.5; AH1 -14.5,-12.5; AH2 -13.5,-12.5; AH3 -12.5,-12.5; AH4 -11.5,-12.5; AH5 -10.5,-12.5; AH6 -9.5,-12.5; AH7 -8.5,-12.5; AH8 -7.5,-12.5; AH9 -6.5,-12.5; AH10 -5.5,-12.5; AH11 -4.5,-12.5; AH12 -3.5,-12.5; AH13 -2.5,-12.5; AH14 -1.5,-12.5; AH15 -0.5,-12.5; AH16 0.5,-12.5; AH17 1.5,-12.5; AH18 2.5,-12.5; AH19 3.5,-12.5; AH20 4.5,-12.5; AH21 5.5,-12.5; AH22 6.5,-12.5; AH23 7.5,-12.5; AH24 8.5,-12.5; AH25 9.5,-12.5; AH26 10.5,-12.5; AH27 11.5,-12.5; AH28 12.5,-12.5; AH29 13.5,-12.5; AH30 14.5,-12.5; AJ1 -14.5,-13.5; AJ2 -13.5,-13.5; AJ3 -12.5,-13.5; AJ4 -11.5,-13.5; AJ5 -10.5,-13.5; AJ6 -9.5,-13.5; AJ7 -8.5,-13.5; AJ8 -7.5,-13.5; AJ9 -6.5,-13.5; AJ10 -5.5,-13.5; AJ11 -4.5,-13.5; AJ12 -3.5,-13.5; AJ13 -2.5,-13.5; AJ14 -1.5,-13.5; AJ15 -0.5,-13.5; AJ16 0.5,-13.5; AJ17 1.5,-13.5; AJ18 2.5,-13.5; AJ19 3.5,-13.5; AJ20 4.5,-13.5; AJ21 5.5,-13.5; AJ22 6.5,-13.5; AJ23 7.5,-13.5; AJ24 8.5,-13.5; AJ25 9.5,-13.5; AJ26 10.5,-13.5; AJ27 11.5,-13.5; AJ28 12.5,-13.5; AJ29 13.5,-13.5; AJ30 14.5,-13.5; AK2 -13.5,-14.5; AK3 -12.5,-14.5; AK4 -11.5,-14.5; AK5 -10.5,-14.5; AK6 -9.5,-14.5; AK7 -8.5,-14.5; AK8 -7.5,-14.5; AK9 -6.5,-14.5; AK10 -5.5,-14.5; AK11 -4.5,-14.5; AK12 -3.5,-14.5; AK13 -2.5,-14.5; AK14 -1.5,-14.5; AK15 -0.5,-14.5; AK16 0.5,-14.5; AK17 1.5,-14.5; AK18 2.5,-14.5; AK19 3.5,-14.5; AK20 4.5,-14.5; AK21 5.5,-14.5; AK22 6.5,-14.5; AK23 7.5,-14.5; AK24 8.5,-14.5; AK25 9.5,-14.5; AK26 10.5,-14.5; AK27 11.5,-14.5; AK28 12.5,-14.5; AK29 13.5,-14.5; B1 -14.5,13.5; B2 -13.5,13.5; B3 -12.5,13.5; B4 -11.5,13.5; B5 -10.5,13.5; B6 -9.5,13.5; B7 -8.5,13.5; B8 -7.5,13.5; B9 -6.5,13.5; B10 -5.5,13.5; B11 -4.5,13.5; B12 -3.5,13.5; B13 -2.5,13.5; B14 -1.5,13.5; B15 -0.5,13.5; B16 0.5,13.5; B17 1.5,13.5; B18 2.5,13.5; B19 3.5,13.5; B20 4.5,13.5; B21 5.5,13.5; B22 6.5,13.5; B23 7.5,13.5; B24 8.5,13.5; B25 9.5,13.5; B26 10.5,13.5; B27 11.5,13.5; B28 12.5,13.5; B29 13.5,13.5; B30 14.5,13.5; C1 -14.5,12.5; C2 -13.5,12.5; C3 -12.5,12.5; C4 -11.5,12.5; C5 -10.5,12.5; C6 -9.5,12.5; C7 -8.5,12.5; C8 -7.5,12.5; C9 -6.5,12.5; C10 -5.5,12.5; C11 -4.5,12.5; C12 -3.5,12.5; C13 -2.5,12.5; C14 -1.5,12.5; C15 -0.5,12.5; C16 0.5,12.5; C17 1.5,12.5; C18 2.5,12.5; C19 3.5,12.5; C20 4.5,12.5; C21 5.5,12.5; C22 6.5,12.5; C23 7.5,12.5; C24 8.5,12.5; C25 9.5,12.5; C26 10.5,12.5; C27 11.5,12.5; C28 12.5,12.5; C29 13.5,12.5; C30 14.5,12.5; D1 -14.5,11.5; D2 -13.5,11.5; D3 -12.5,11.5; D4 -11.5,11.5; D5 -10.5,11.5; D6 -9.5,11.5; D7 -8.5,11.5; D8 -7.5,11.5; D9 -6.5,11.5; D10 -5.5,11.5; D11 -4.5,11.5; D12 -3.5,11.5; D13 -2.5,11.5; D14 -1.5,11.5; D15 -0.5,11.5; D16 0.5,11.5; D17 1.5,11.5; D18 2.5,11.5; D19 3.5,11.5; D20 4.5,11.5; D21 5.5,11.5; D22 6.5,11.5; D23 7.5,11.5; D24 8.5,11.5; D25 9.5,11.5; D26 10.5,11.5; D27 11.5,11.5; D28 12.5,11.5; D29 13.5,11.5; D30 14.5,11.5; E1 -14.5,10.5; E2 -13.5,10.5; E3 -12.5,10.5; E4 -11.5,10.5; E5 -10.5,10.5; E6 -9.5,10.5; E7 -8.5,10.5; E8 -7.5,10.5; E9 -6.5,10.5; E10 -5.5,10.5; E11 -4.5,10.5; E12 -3.5,10.5; E13 -2.5,10.5; E14 -1.5,10.5; E15 -0.5,10.5; E16 0.5,10.5; E17 1.5,10.5; E18 2.5,10.5; E19 3.5,10.5; E20 4.5,10.5; E21 5.5,10.5; E22 6.5,10.5; E23 7.5,10.5; E24 8.5,10.5; E25 9.5,10.5; E26 10.5,10.5; E27 11.5,10.5; E28 12.5,10.5; E29 13.5,10.5; E30 14.5,10.5; F1 -14.5,9.5; F2 -13.5,9.5; F3 -12.5,9.5; F4 -11.5,9.5; F5 -10.5,9.5; F6 -9.5,9.5; F7 -8.5,9.5; F8 -7.5,9.5; F9 -6.5,9.5; F10 -5.5,9.5; F11 -4.5,9.5; F12 -3.5,9.5; F13 -2.5,9.5; F14 -1.5,9.5; F15 -0.5,9.5; F16 0.5,9.5; F17 1.5,9.5; F18 2.5,9.5; F19 3.5,9.5; F20 4.5,9.5; F21 5.5,9.5; F22 6.5,9.5; F23 7.5,9.5; F24 8.5,9.5; F25 9.5,9.5; F26 10.5,9.5; F27 11.5,9.5; F28 12.5,9.5; F29 13.5,9.5; F30 14.5,9.5; G1 -14.5,8.5; G2 -13.5,8.5; G3 -12.5,8.5; G4 -11.5,8.5; G5 -10.5,8.5; G6 -9.5,8.5; G7 -8.5,8.5; G8 -7.5,8.5; G9 -6.5,8.5; G10 -5.5,8.5; G11 -4.5,8.5; G12 -3.5,8.5; G13 -2.5,8.5; G14 -1.5,8.5; G15 -0.5,8.5; G16 0.5,8.5; G17 1.5,8.5; G18 2.5,8.5; G19 3.5,8.5; G20 4.5,8.5; G21 5.5,8.5; G22 6.5,8.5; G23 7.5,8.5; G24 8.5,8.5; G25 9.5,8.5; G26 10.5,8.5; G27 11.5,8.5; G28 12.5,8.5; G29 13.5,8.5; G30 14.5,8.5; H1 -14.5,7.5; H2 -13.5,7.5; H3 -12.5,7.5; H4 -11.5,7.5; H5 -10.5,7.5; H6 -9.5,7.5; H7 -8.5,7.5; H8 -7.5,7.5; H9 -6.5,7.5; H10 -5.5,7.5; H11 -4.5,7.5; H12 -3.5,7.5; H13 -2.5,7.5; H14 -1.5,7.5; H15 -0.5,7.5; H16 0.5,7.5; H17 1.5,7.5; H18 2.5,7.5; H19 3.5,7.5; H20 4.5,7.5; H21 5.5,7.5; H22 6.5,7.5; H23 7.5,7.5; H24 8.5,7.5; H25 9.5,7.5; H26 10.5,7.5; H27 11.5,7.5; H28 12.5,7.5; H29 13.5,7.5; H30 14.5,7.5; J1 -14.5,6.5; J2 -13.5,6.5; J3 -12.5,6.5; J4 -11.5,6.5; J5 -10.5,6.5; J6 -9.5,6.5; J7 -8.5,6.5; J8 -7.5,6.5; J9 -6.5,6.5; J10 -5.5,6.5; J11 -4.5,6.5; J12 -3.5,6.5; J13 -2.5,6.5; J14 -1.5,6.5; J15 -0.5,6.5; J16 0.5,6.5; J17 1.5,6.5; J18 2.5,6.5; J19 3.5,6.5; J20 4.5,6.5; J21 5.5,6.5; J22 6.5,6.5; J23 7.5,6.5; J24 8.5,6.5; J25 9.5,6.5; J26 10.5,6.5; J27 11.5,6.5; J28 12.5,6.5; J29 13.5,6.5; J30 14.5,6.5; K1 -14.5,5.5; K2 -13.5,5.5; K3 -12.5,5.5; K4 -11.5,5.5; K5 -10.5,5.5; K6 -9.5,5.5; K7 -8.5,5.5; K8 -7.5,5.5; K9 -6.5,5.5; K10 -5.5,5.5; K11 -4.5,5.5; K12 -3.5,5.5; K13 -2.5,5.5; K14 -1.5,5.5; K15 -0.5,5.5; K16 0.5,5.5; K17 1.5,5.5; K18 2.5,5.5; K19 3.5,5.5; K20 4.5,5.5; K21 5.5,5.5; K22 6.5,5.5; K23 7.5,5.5; K24 8.5,5.5; K25 9.5,5.5; K26 10.5,5.5; K27 11.5,5.5; K28 12.5,5.5; K29 13.5,5.5; K30 14.5,5.5; L1 -14.5,4.5; L2 -13.5,4.5; L3 -12.5,4.5; L4 -11.5,4.5; L5 -10.5,4.5; L6 -9.5,4.5; L7 -8.5,4.5; L8 -7.5,4.5; L9 -6.5,4.5; L10 -5.5,4.5; L11 -4.5,4.5; L12 -3.5,4.5; L13 -2.5,4.5; L14 -1.5,4.5; L15 -0.5,4.5; L16 0.5,4.5; L17 1.5,4.5; L18 2.5,4.5; L19 3.5,4.5; L20 4.5,4.5; L21 5.5,4.5; L22 6.5,4.5; L23 7.5,4.5; L24 8.5,4.5; L25 9.5,4.5; L26 10.5,4.5; L27 11.5,4.5; L28 12.5,4.5; L29 13.5,4.5; L30 14.5,4.5; M1 -14.5,3.5; M2 -13.5,3.5; M3 -12.5,3.5; M4 -11.5,3.5; M5 -10.5,3.5; M6 -9.5,3.5; M7 -8.5,3.5; M8 -7.5,3.5; M9 -6.5,3.5; M10 -5.5,3.5; M11 -4.5,3.5; M12 -3.5,3.5; M13 -2.5,3.5; M14 -1.5,3.5; M15 -0.5,3.5; M16 0.5,3.5; M17 1.5,3.5; M18 2.5,3.5; M19 3.5,3.5; M20 4.5,3.5; M21 5.5,3.5; M22 6.5,3.5; M23 7.5,3.5; M24 8.5,3.5; M25 9.5,3.5; M26 10.5,3.5; M27 11.5,3.5; M28 12.5,3.5; M29 13.5,3.5; M30 14.5,3.5; N1 -14.5,2.5; N2 -13.5,2.5; N3 -12.5,2.5; N4 -11.5,2.5; N5 -10.5,2.5; N6 -9.5,2.5; N7 -8.5,2.5; N8 -7.5,2.5; N9 -6.5,2.5; N10 -5.5,2.5; N11 -4.5,2.5; N12 -3.5,2.5; N13 -2.5,2.5; N14 -1.5,2.5; N15 -0.5,2.5; N16 0.5,2.5; N17 1.5,2.5; N18 2.5,2.5; N19 3.5,2.5; N20 4.5,2.5; N21 5.5,2.5; N22 6.5,2.5; N23 7.5,2.5; N24 8.5,2.5; N25 9.5,2.5; N26 10.5,2.5; N27 11.5,2.5; N28 12.5,2.5; N29 13.5,2.5; N30 14.5,2.5; P1 -14.5,1.5; P2 -13.5,1.5; P3 -12.5,1.5; P4 -11.5,1.5; P5 -10.5,1.5; P6 -9.5,1.5; P7 -8.5,1.5; P8 -7.5,1.5; P9 -6.5,1.5; P10 -5.5,1.5; P11 -4.5,1.5; P12 -3.5,1.5; P13 -2.5,1.5; P14 -1.5,1.5; P15 -0.5,1.5; P16 0.5,1.5; P17 1.5,1.5; P18 2.5,1.5; P19 3.5,1.5; P20 4.5,1.5; P21 5.5,1.5; P22 6.5,1.5; P23 7.5,1.5; P24 8.5,1.5; P25 9.5,1.5; P26 10.5,1.5; P27 11.5,1.5; P28 12.5,1.5; P29 13.5,1.5; P30 14.5,1.5; R1 -14.5,0.5; R2 -13.5,0.5; R3 -12.5,0.5; R4 -11.5,0.5; R5 -10.5,0.5; R6 -9.5,0.5; R7 -8.5,0.5; R8 -7.5,0.5; R9 -6.5,0.5; R10 -5.5,0.5; R11 -4.5,0.5; R12 -3.5,0.5; R13 -2.5,0.5; R14 -1.5,0.5; R15 -0.5,0.5; R16 0.5,0.5; R17 1.5,0.5; R18 2.5,0.5; R19 3.5,0.5; R20 4.5,0.5; R21 5.5,0.5; R22 6.5,0.5; R23 7.5,0.5; R24 8.5,0.5; R25 9.5,0.5; R26 10.5,0.5; R27 11.5,0.5; R28 12.5,0.5; R29 13.5,0.5; R30 14.5,0.5; T1 -14.5,-0.5; T2 -13.5,-0.5; T3 -12.5,-0.5; T4 -11.5,-0.5; T5 -10.5,-0.5; T6 -9.5,-0.5; T7 -8.5,-0.5; T8 -7.5,-0.5; T9 -6.5,-0.5; T10 -5.5,-0.5; T11 -4.5,-0.5; T12 -3.5,-0.5; T13 -2.5,-0.5; T14 -1.5,-0.5; T15 -0.5,-0.5; T16 0.5,-0.5; T17 1.5,-0.5; T18 2.5,-0.5; T19 3.5,-0.5; T20 4.5,-0.5; T21 5.5,-0.5; T22 6.5,-0.5; T23 7.5,-0.5; T24 8.5,-0.5; T25 9.5,-0.5; T26 10.5,-0.5; T27 11.5,-0.5; T28 12.5,-0.5; T29 13.5,-0.5; T30 14.5,-0.5; U1 -14.5,-1.5; U2 -13.5,-1.5; U3 -12.5,-1.5; U4 -11.5,-1.5; U5 -10.5,-1.5; U6 -9.5,-1.5; U7 -8.5,-1.5; U8 -7.5,-1.5; U9 -6.5,-1.5; U10 -5.5,-1.5; U11 -4.5,-1.5; U12 -3.5,-1.5; U13 -2.5,-1.5; U14 -1.5,-1.5; U15 -0.5,-1.5; U16 0.5,-1.5; U17 1.5,-1.5; U18 2.5,-1.5; U19 3.5,-1.5; U20 4.5,-1.5; U21 5.5,-1.5; U22 6.5,-1.5; U23 7.5,-1.5; U24 8.5,-1.5; U25 9.5,-1.5; U26 10.5,-1.5; U27 11.5,-1.5; U28 12.5,-1.5; U29 13.5,-1.5; U30 14.5,-1.5; V1 -14.5,-2.5; V2 -13.5,-2.5; V3 -12.5,-2.5; V4 -11.5,-2.5; V5 -10.5,-2.5; V6 -9.5,-2.5; V7 -8.5,-2.5; V8 -7.5,-2.5; V9 -6.5,-2.5; V10 -5.5,-2.5; V11 -4.5,-2.5; V12 -3.5,-2.5; V13 -2.5,-2.5; V14 -1.5,-2.5; V15 -0.5,-2.5; V16 0.5,-2.5; V17 1.5,-2.5; V18 2.5,-2.5; V19 3.5,-2.5; V20 4.5,-2.5; V21 5.5,-2.5; V22 6.5,-2.5; V23 7.5,-2.5; V24 8.5,-2.5; V25 9.5,-2.5; V26 10.5,-2.5; V27 11.5,-2.5; V28 12.5,-2.5; V29 13.5,-2.5; V30 14.5,-2.5; W1 -14.5,-3.5; W2 -13.5,-3.5; W3 -12.5,-3.5; W4 -11.5,-3.5; W5 -10.5,-3.5; W6 -9.5,-3.5; W7 -8.5,-3.5; W8 -7.5,-3.5; W9 -6.5,-3.5; W10 -5.5,-3.5; W11 -4.5,-3.5; W12 -3.5,-3.5; W13 -2.5,-3.5; W14 -1.5,-3.5; W15 -0.5,-3.5; W16 0.5,-3.5; W17 1.5,-3.5; W18 2.5,-3.5; W19 3.5,-3.5; W20 4.5,-3.5; W21 5.5,-3.5; W22 6.5,-3.5; W23 7.5,-3.5; W24 8.5,-3.5; W25 9.5,-3.5; W26 10.5,-3.5; W27 11.5,-3.5; W28 12.5,-3.5; W29 13.5,-3.5; W30 14.5,-3.5; Y1 -14.5,-4.5; Y2 -13.5,-4.5; Y3 -12.5,-4.5; Y4 -11.5,-4.5; Y5 -10.5,-4.5; Y6 -9.5,-4.5; Y7 -8.5,-4.5; Y8 -7.5,-4.5; Y9 -6.5,-4.5; Y10 -5.5,-4.5; Y11 -4.5,-4.5; Y12 -3.5,-4.5; Y13 -2.5,-4.5; Y14 -1.5,-4.5; Y15 -0.5,-4.5; Y16 0.5,-4.5; Y17 1.5,-4.5; Y18 2.5,-4.5; Y19 3.5,-4.5; Y20 4.5,-4.5; Y21 5.5,-4.5; Y22 6.5,-4.5; Y23 7.5,-4.5; Y24 8.5,-4.5; Y25 9.5,-4.5; Y26 10.5,-4.5; Y27 11.5,-4.5; Y28 12.5,-4.5; Y29 13.5,-4.5; Y30 14.5,-4.5